# Altium schematic symbol library GRM21BR61A226ME44L.SchLib: 1 symbol
Pins are listed as number, name and electrical type; pins without a type are passive.

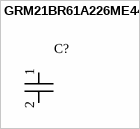
[diagram p0: symbol GRM21BR61A226ME44L]

## GRM21BR61A226ME44L
designator C?
Manufacturer_Name: Murata; Manufacturer_Part_Number: GRM21BR61A226ME44L
pins: 1, 2